# Altium schematic symbol library diode_sk.SCHLIB: 1 symbol
Pins are listed as number, name and electrical type; pins without a type are passive.

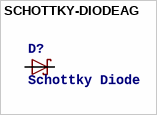
[diagram p0: symbol SCHOTTKY-DIODEAG]

## SCHOTTKY-DIODEAG
designator D?, comment Schottky Diode
footprint DO214AA
pins: A, C